# Altium footprint library 零散封装库.PcbLib: 13 footprints
Each footprint in its own frame and in the unit in brackets; x right, y up, seen from the top. Pads: shape width x height; smd on the part's side, far side on the other; paste and mask are expansions set on the pad; w line width, h text height; cw(c..) or ccw(c..) is an arc to the next point about the centre after c.
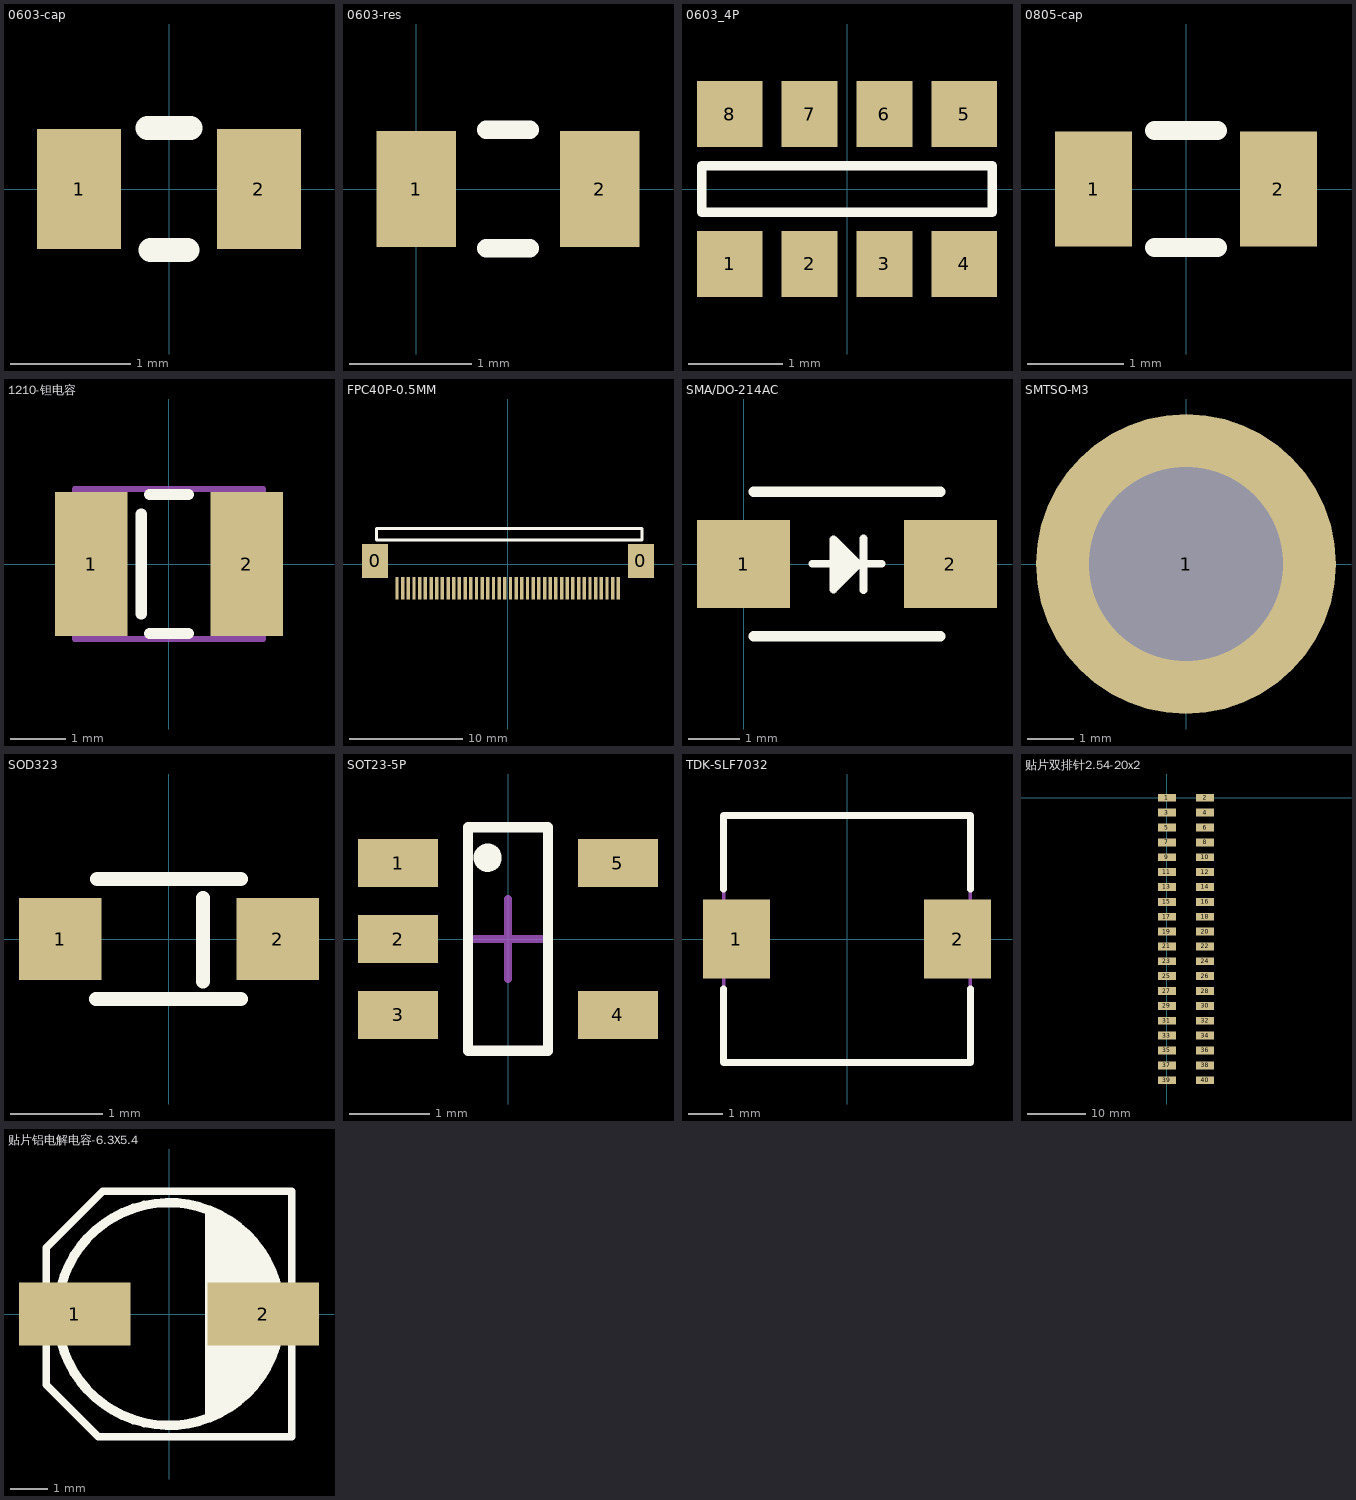
[diagram p0: the footprints below, top view; thin cyan lines are the x and y axes]

## 0603-cap [mm] "Chip Capacitor, 2-Leads, Body 1.60x0.80mm, IPC Medium Density"
height 0.35
pads (2):
  rect 0.7x1 smd: 1(-0.75,0) 2(0.75,0)
Top Overlay:
  lines w0.2: -0.178,0.508 0.178,0.508 ; -0.152,-0.508 0.152,-0.508
3D body "0603-cap.step": height 0.35, standoff 0, extent -0.875,-0.475 0.875,0.475

## 0603-res [mm]
height 0.35
pads (2):
  rect 0.65x0.95 smd: 1(0,0) 2(1.5,0)
Top Overlay:
  lines w0.152: 0.572,-0.483 0.928,-0.483 ; 0.572,0.483 0.928,0.483
3D body "0603-res.step": height 0.35, standoff 0, extent -0.125,-0.475 1.625,0.475

## 0603_4P [mm]
height 0.5
pads (8):
  rect 0.7x0.7 smd: 1(-1.25,-0.8) 4(1.25,-0.8) 5(1.25,0.8) 8(-1.25,0.8)
  rect 0.6x0.7 smd: 2(-0.4,-0.8) 3(0.4,-0.8) 6(0.4,0.8) 7(-0.4,0.8)
Top Overlay:
  lines w0.102: -1.55,-0.25 1.55,-0.25 1.55,0.25 -1.55,0.25 -1.55,-0.25

## 0805-cap [mm] "Chip Capacitor, 2-Leads, Body 2.20x1.25mm, IPC Medium Density"
height 0.5
pads (2):
  rect 0.8x1.2 smd: 1(-0.965,0) 2(0.965,0)
Top Overlay:
  lines w0.2: -0.33,-0.61 0.33,-0.61 ; -0.33,0.61 0.33,0.61
3D body "CAPC2212X05N.step": height 0.5, standoff 0, extent -1.1,-0.625 1.1,0.625

## 1210-钽电容 [mm]
height 0.5
pads (2):
  rect 1.3x2.6 smd: 1(-1.4,0) 2(1.4,0)
Top Overlay:
  lines w0.203: -0.5,-0.9 -0.5,0.9 ; -0.35,-1.25 0.35,-1.25 ; -0.35,1.25 0.35,1.25
Mechanical 13:
  lines w0.1: -1.7,-1.35 1.7,-1.35 1.7,1.35 -1.7,1.35 -1.7,-1.35
3D body "1210-CAP.step": height 1.5, standoff 0, extent -1.7,-1.35 1.7,1.35

## FPC40P-0.5MM [mm]
height 0.5
pads (42):
  rect 2.3x3 smd: 0(-11.7,0.297) 0(11.73,0.297)
  rect 0.3x2 smd: 1(9.736,-2.108) 2(9.236,-2.108) 3(8.736,-2.108) 4(8.236,-2.108) 5(7.736,-2.108) 6(7.236,-2.108) 7(6.736,-2.108) 8(6.236,-2.108) 9(5.736,-2.108) 10(5.236,-2.108) 11(4.736,-2.108) 12(4.236,-2.108) 13(3.736,-2.108) 14(3.236,-2.108) 15(2.736,-2.108) 16(2.236,-2.108) 17(1.736,-2.108) 18(1.236,-2.108) 19(0.736,-2.108) 20(0.236,-2.108) 21(-0.264,-2.108) 22(-0.764,-2.108) 23(-1.264,-2.108) 24(-1.764,-2.108) 25(-2.264,-2.108) 26(-2.764,-2.108) 27(-3.264,-2.108) 28(-3.764,-2.108) 29(-4.264,-2.108) 30(-4.764,-2.108) 31(-5.264,-2.108) 32(-5.764,-2.108) 33(-6.264,-2.108) 34(-6.764,-2.108) 35(-7.264,-2.108) 36(-7.764,-2.108) 37(-8.264,-2.108) 38(-8.764,-2.108) 39(-9.264,-2.108) 40(-9.764,-2.108)
Top Overlay:
  lines w0.254: -11.57,2.143 11.83,2.143 11.83,3.159 -11.57,3.159 -11.57,2.143

## SMA/DO-214AC [mm]
height 0.5
pads (2):
  rect 1.8x1.7 smd: 1(0,0) 2(4,0)
Top Overlay:
  lines w0.152: 1.33,0.006 2.67,0.006 ; 1.828,-0.401 1.828,0.285 1.98,0.133 1.98,-0.21 ; 2.317,-0.5 2.317,0.49 ; 1.739,-0.489 1.739,0.476 2.221,-0.007 1.739,-0.489
  lines w0.2: 0.2,-1.4 3.8,-1.4 ; 0.2,1.4 3.8,1.4

## SMTSO-M3 [mm]
pads (1):
  round 6.5 hole 4.2: 1(0,0)

## SOD323 [mil] "SODFL, 2-Leads, Body 1.30x2.60mm, IPC Medium Density"
height 39.37
pads (2):
  rect 35x35 smd: 1(-46.26,0) 2(46.26,0)
Top Overlay:
  lines w6: -31,-25.5 30.5,-25.5 ; -30.5,25.5 30.5,25.5 ; 14.44,-18 14.44,17.5
3D body "SOD323.step": height 39.37, standoff 0, extent -51.18,-27.56 51.18,27.56

## SOT23-5P [mm] "SOT23, 5-Leads, Body 2.90x2.80mm, Pitch 0.95mm, IPC Medium Density"
height 1.45
pads (5):
  rect 1x0.6 smd: 1(-1.375,0.95) 2(-1.375,0) 3(-1.375,-0.95) 4(1.375,-0.95) 5(1.375,0.95)
Top Overlay:
  circle w0.25: c-0.254,1.016 r0.051
  lines w0.127: -0.5,-1.397 -0.5,1.397 0.5,1.397 0.5,-1.397 -0.5,-1.397
Mechanical 15:
  lines w0.1: -0.5,0 0.5,0 ; 0,-0.5 0,0.5
3D body "SOT23-5P.step": height 1.45, standoff 0, extent -1.5,-1.525 1.5,1.525

## TDK-SLF7032 [mm] "Precision Wire Wound Inductor, 2-Leads, Body 7.00x7.00mm, IPC Medium Density"
height 3.2
pads (2):
  rect 1.95x2.3 smd: 1(-3.225,0) 2(3.225,0)
Top Overlay:
  lines w0.2: -3.6,-1.45 -3.6,-3.6 3.6,-3.6 3.6,-1.45 ; -3.6,1.45 -3.6,3.6 3.6,3.6 3.6,1.45
Mechanical 13:
  lines w0.1: -3.6,-3.6 3.6,-3.6 3.6,3.6 -3.6,3.6 -3.6,-3.6
3D body "TDK-SLF7032.step": height 3.3, standoff 0, extent -3.6,-3.5 3.6,3.5

## 贴片双排针2.54-20x2 [mm]
height 0.5
pads (40):
  rect 3x1.35 smd: 1(0,0) 2(6.5,0) 3(0,-2.54) 4(6.5,-2.54) 5(0,-5.08) 6(6.5,-5.08) 7(0,-7.62) 8(6.5,-7.62) 9(0,-10.16) 10(6.5,-10.16) 11(0,-12.7) 12(6.5,-12.7) 13(0,-15.24) 14(6.5,-15.24) 15(0,-17.78) 16(6.5,-17.78) 17(0,-20.32) 18(6.5,-20.32) 19(0,-22.86) 20(6.5,-22.86) 21(0,-25.4) 22(6.5,-25.4) 23(0,-27.94) 24(6.5,-27.94) 25(0,-30.48) 26(6.5,-30.48) 27(0,-33.02) 28(6.5,-33.02) 29(0,-35.56) 30(6.5,-35.56) 31(0,-38.1) 32(6.5,-38.1) 33(0,-40.64) 34(6.5,-40.64) 35(0,-43.18) 36(6.5,-43.18) 37(0,-45.72) 38(6.5,-45.72) 39(0,-48.26) 40(6.5,-48.26)

## 贴片铝电解电容-6.3X5.4 [mm] "Aluminum Electrolytic Capacitor, Body 6.60x6.60x5.40mm, IPC Low Density"
height 5.4
pads (2):
  rect 3x1.7 smd: 1(-2.54,0) 2(2.54,0)
Top Overlay:
  circle w0.254: c0,0 r3
  lines w0.203: -3.302,-1.905 -3.302,1.778 -1.778,3.302 3.302,3.302 3.302,-3.302 -1.905,-3.302 -3.302,-1.905
  lines w0.305: 1.127,-2.707 1.127,2.692 ; 1.127,-1.691 ccw(c0,0) 1.208,1.634 ; 1.129,1.273 cw(c0.254,0) 1.181,-1.236 ; 1.133,2.554 cw(c0,0) 1.25,-2.499 ; 1.134,-1.985 ccw(c0,0) 1.224,1.931 ; 1.159,-0.527 ccw(c0.254,0) 1.159,0.527 ; 1.17,0.916 cw(c0.254,0) 1.23,-0.852 ; 1.178,-1.54 ccw(c0.254,0) 1.524,1.27 ; 1.232,2.221 cw(c0,0) 1.234,-2.22
  lines w0.762: 1.381,-0.762 1.381,1.127 1.524,1.27
3D body "CAPAE7666X54M.step": height 6.4, standoff 0.1, extent -3.8,-3.4 3.8,3.4